# EAGLE library part STD043F06X1 (library con-pinheader-standard)
female standard header 2mm, 4.3mm height
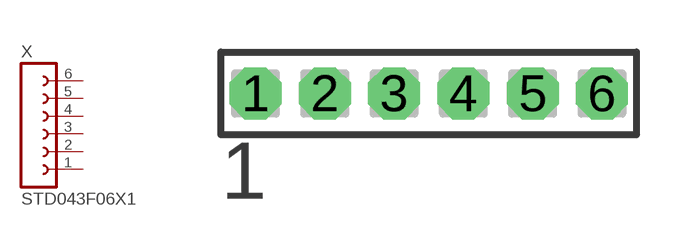
[diagram p0: symbol with the pads of STD043F06X1-2.00; footprint STD043F06X1-2.00]

Designator prefix X

## STD043F06X1-2.00MM (OC_FARNELL: unknown; OC_NEWARK: unknown)  [STD043F06X1-2.00]
1  1  pas
2  2  pas
3  3  pas
4  4  pas
5  5  pas
6  6  pas

## Footprint STD043F06X1-2.00 (pad centres in mm)
female standard header 2mm, 4.3mm height
drill 0.8 pad 1.5 octagon: 1 -5,0; 2 -3,0; 3 -1,0; 4 1,0; 5 3,0; 6 5,0